# Altium integrated library G-Base-1.IntLib: 32 symbols
Pins are listed as number, name and electrical type; pins without a type are passive.

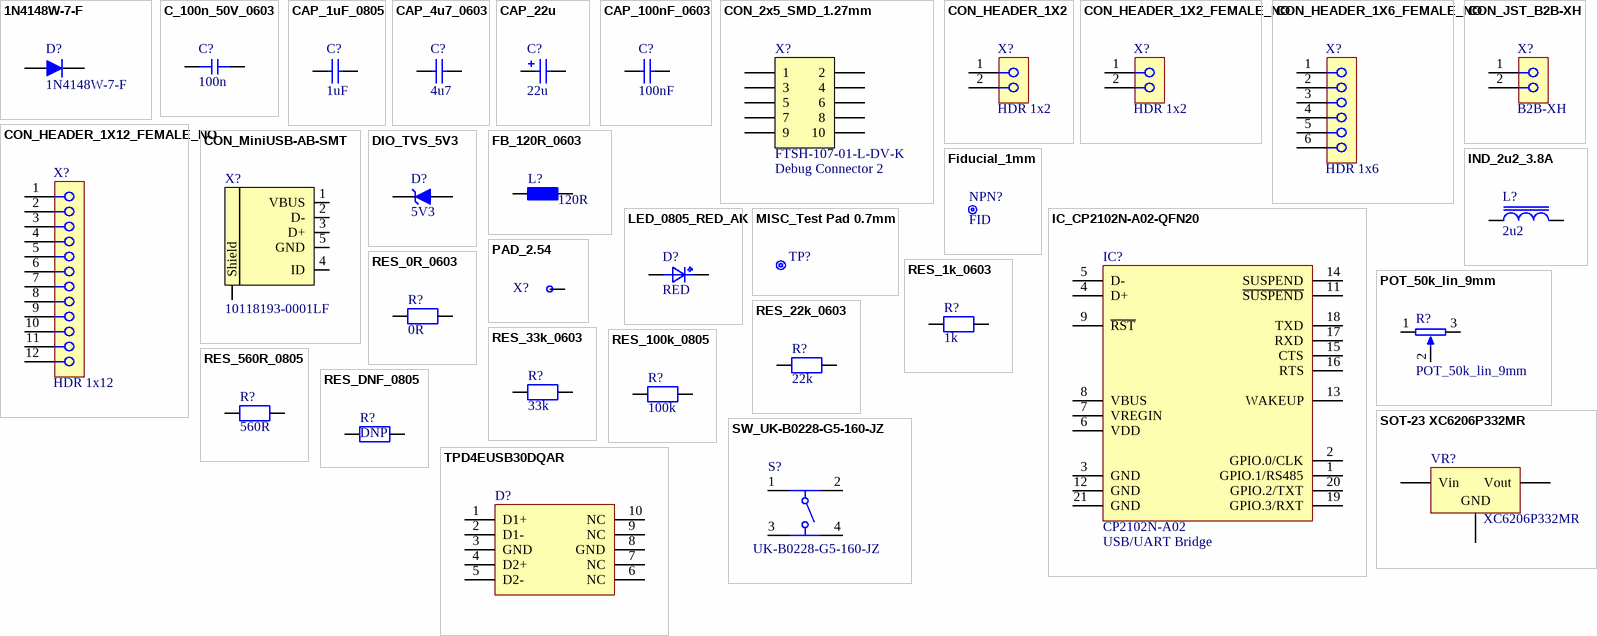
[diagram p0: symbols 1N4148W-7-F to TPD4EUSB30DQAR]

## 1N4148W-7-F
designator D?
Diodes - General Purpose, Power, Switching SURFACE MOUNT FAST SWITCHING DIODE 2A; Manufacturer: Diodes Incorporated; Package: SOD-123; JLC: C81598; Manufacturer Part Number: 1N4148W-7-F
footprint SOD-123
pins: 1 A, 2 K

## C_100n_50V_0603
designator C?, comment 100n
100n_50V; Manufacturer: AVX; Manufacturer Part Number: 06031C104KAT2A; Voltage Rating: 50V; Tolerance: +-10%; Alternatives allowed: YES; Notes: X7R, 0603; Value: 100nF; JLC: C14663
footprint CAPC1608X95N (Chip Capacitor, 2-Leads, Body 1,6x0,8mm, imperial 0603)
pins: 1, 2

## CAP_1uF_0805
designator C?, comment 1uF
Multilayer Ceramic Capacitors MLCC - SMD/SMT, 1uF; Manufacturer: Samsung Electro-Mechanics; Manufacturer Part Number: CL21B105KBFNNNE; Tolerance: 10%; Voltage Rating: 50V; Alternatives allowed: yes; JLC: C28323
footprint CAPC2012X145N (Chip Capacitor, 2-Leads, Body 2,0x1,25mm, imperial 0805)
pins: 1, 2

## CAP_4u7_0603
designator C?, comment 4u7
16V 4.7uF X5R ±10% 0603 Multilayer Ceramic Capacitors MLCC - SMD/SMT ROHS; Manufacturer: Murata Electronics; Manufacturer Part Number: GRM188C81C475KE11D; Voltage Rating: 16VDC; Alternatives allowed: yes; Tolerance: 10%; JLC: C19666
footprint CAPC1608X95N (Chip Capacitor, 2-Leads, Body 1,6x0,8mm, imperial 0603)
pins: 1, 2

## CAP_22u
designator C?, comment 22u
Aluminium Electrolytic Capacitors - SMD 22UF 16V HA SMD; Manufacturer: Panasonic; Manufacturer Part Number: EEE-HAC220WAR; Tolerance: 20%; Alternatives allowed: NO; Voltage Rating: 16V
footprint CAPAE4643X54M (Aluminum Electrolytic Capacitor, Body 4,30x4,30x5,40mm, IPC Low Density)
pins: 1, 2

## CAP_100nF_0603
designator C?, comment 100nF
Multilayer Ceramic Capacitors MLCC - SMD/SMT, 100nF; Manufacturer: YAGEO; Manufacturer Part Number: CC0603KRX7R9BB104; Voltage Rating: 50VDC; Tolerance: 10%; Alternatives allowed: yes; JLC: C14663
footprint CAPC1608X95N (Chip Capacitor, 2-Leads, Body 1,6x0,8mm, imperial 0603)
pins: 1, 2

## CON_2x5_SMD_1.27mm
designator X?, comment FTSH-107-01-L-DV-K  DevNote: Debug Connector 2
Pin Header 2x5, 1.27mm (50mil), SMD, Keying Shroud; Manufacturer: Samtec; Manufacturer Part Number: FTSH-105-01-L-DV-K; Value: Pin Header 2x5, 1.27mm; ComponentLink1URL: *; ComponentLink1Description: Datasheet; ComponentLink2URL: *; ComponentLink2Description: Supplier link
footprint HDR_2x5-SMD-1.27mm-K
pins: 1, 2, 3, 4, 5, 6, 7, 8, 9, 10

## CON_HEADER_1X2
designator X?, comment HDR 1x2
Board-to-Board-Steckverbinder, 2.54 mm, 2 Kontakt(e), Stiftleiste 1-Reihig; Manufacturer: Samtec; Manufacturer Part Number: TSW-102-07-T-S; Lumira Part Number: S-QMS-SPEC-32507; Alternatives allowed: YES
footprint CON_HEADER2.54_1x2W (Footprint not found)
pins: 1, 2

## CON_HEADER_1X2_FEMALE_NO
designator X?, comment HDR 1x2
Board-to-Board-Steckverbinder, 2.54 mm, 2 Kontakt(e), Stiftleiste 1-Reihig; Manufacturer: WE; Manufacturer Part Number: 61300211821; Lumira Part Number: S-QMS-SPEC-32507; Alternatives allowed: YES
footprint 61300211821_NO (Socket Header, Pitch 2.54 mm, THT, Vertical, single row, 2p)
pins: 1, 2

## CON_HEADER_1X6_FEMALE_NO
designator X?, comment HDR 1x6
Board-to-Board-Steckverbinder, 2.54 mm, 6 Kontakt(e), Stiftleiste 1-Reihig; Manufacturer: WE; Manufacturer Part Number: 61300611821; Alternatives allowed: YES
footprint 61300611821_NO (Socket Header, Pitch 2.54 mm, THT, Vertical, single row, 6p)
pins: 1, 2, 3, 4, 5, 6

## CON_HEADER_1X12_FEMALE_NO
designator X?, comment HDR 1x12
Board-to-Board-Steckverbinder, 2.54 mm, 12 Kontakt(e), Stiftleiste 1-Reihig; Manufacturer: WE; Manufacturer Part Number: 61301211821; Alternatives allowed: YES
footprint 61301211821_NO (Socket Header, Pitch 2.54 mm, THT, Vertical, single row, 12p)
pins: 1, 2, 3, 4, 5, 6, 7, 8, 9, 10, 11, 12

## CON_JST_B2B-XH
designator X?, comment B2B-XH
Connector Header Through Hole 2 position 0.098" (2.50mm); Manufacturer: JST; Manufacturer Part Number: B2B-XH-A (LF)(SN); Alternatives allowed: YES; JLC: C158012
footprint JST_B2B-XH-A_(LF)(SN) (Footprint not found)
pins: 1, 2

## CON_MiniUSB-AB-SMT
designator X?, comment 10118193-0001LF
MicroUSB-B-SMT; Manufacturer: Amphenol ICC (FCI); Manufacturer Part Number: 10118193-0001LF; ComponentLink1URL: *; ComponentLink1Description: Datasheet; ComponentLink2URL: *; ComponentLink2Description: Supplier link
footprint USB-Micro-B-RA-SMD-PiP
pins: 1 VBUS (power), 2 D-, 3 D+, 4 ID, 5 GND (power), 6 Shield (power)

## DIO_TVS_5V3
designator D?, comment 5V3
ESD Suppressors / TVS Diodes WE-VE 0603 USB 2.0 5V 10MoHM; Manufacturer: onsemi; Manufacturer Part Number: SZESD7371P2T5G; Alternatives allowed: YES; Voltage Rating: 5V3; JLC: C896553
footprint SODFL100X40-2N (SODFL, 2-Leads, Body 0,60x1,00mm, IPC Medium Density)
pins: A, K

## FB_120R_0603
designator L?, comment 120R
Chip Bead Inductors for Power Lines; Manufacturer: Taiyo Yuden; Manufacturer Part Number: FBMH1608HL121-T; Alternatives allowed: YES; Notes: 0603, 1,2A; Value: 120R
footprint INDC1608X95AN (Chip Inductor, 2-Leads, Body 1,6x0,8mm, imperial 0603)
pins: 1, 2

## Fiducial_1mm
designator NPN?, comment FID
footprint Fiducial_1mm

## IC_CP2102N-A02-QFN20
designator IC?, comment CP2102N-A02  DevNote: USB/UART Bridge
USB Interface IC USBXpress - USB to UART Bridge QFN28; Manufacturer: Silicon Labs; Manufacturer Part Number: CP2102N-A02-GQFN20R; Alternatives allowed: NO; ComponentLink1URL: *; ComponentLink1Description: Datasheet; ComponentLink2URL: *; ComponentLink2Description: Supplier link; Voltage Rating: *; JLC: C969913
footprint SILABS_CP2102N-A02-GQFN20R
pins: 1 GPIO.1/RS485, 2 GPIO.0/CLK, 3 GND, 4 D+, 5 D-, 6 VDD, 7 VREGIN, 8 VBUS, 9 ~{RST}, 11 ~{SUSPEND}, 12 GND, 13 WAKEUP, 14 SUSPEND, 15 CTS, 16 RTS, 17 RXD, 18 TXD, 19 GPIO.3/RXT, 20 GPIO.2/TXT, 21 GND

## IND_2u2_3.8A
designator L?, comment 2u2
Fixed Inductors 2.2uH 3.8A; Manufacturer: Bourns; Manufacturer Part Number: SRN5040TA-2R2M; Voltage Rating: 50V; Tolerance: 10%; Alternatives allowed: yes; JLC: N/A
footprint INDP5050X39N (Precision Wire Wound Inductor, 2-Leads, Body 4,95x4,95mm, IPC Medium Density)
pins: 1, 2

## LED_0805_RED_AK
designator D?, comment RED
Standard LEDs - SMD WL-SMCW SMDMono TpVw Waterclr 0805 Red; Manufacturer: Wurth Elektronik; Manufacturer Part Number: 150080RS75000; Voltage Rating: 2.0; Alternatives allowed: YES; JLC: C84256
footprint WL-SMCW_0805 (Footprint not found)
pins: A, K

## MISC_Test Pad 0.7mm
designator TP?, comment TP 0.7mm  (value not drawn)  (no BOM)
Test Pad surface mount; Notes: Test Pad Only; Alternatives allowed: NO; Manufacturer: N/A; Manufacturer Part Number: N/A
footprint TP_0.7mm
pins: 1
1 alternate drawing of the same symbol

## PAD_2.54
designator X?, comment PAD  (value not drawn)  (net tie, no BOM)
footprint PAD_1.1_1.6
pins: 1

## POT_50k_lin_9mm
designator R?
Potentiometers PANEL CONTROL - 9MM-ST-CA 50 kohms 30 mm; Manufacturer: Bourns; Manufacturer Part Number: PTV09A-4030S-A503; Tolerance: 20%
footprint PTV09
pins: 1, 2, 3

## RES_0R_0603
designator R?, comment 0R
Thick Film Resistors - SMD 1/10watt ZEROohm Jumper; Manufacturer: Vishay; Manufacturer Part Number: CRCW06030000Z0EA; Voltage Rating: 75V; Tolerance: 1%; Alternatives allowed: YES; JLC: C21189
footprint RESC1608X55N (Chip Resistor, 2-Leads, Body 1,6x0,85mm, imperial 0603)
pins: 1, 2

## RES_1k_0603
designator R?, comment 1k
Thick Film Resistors - SMD 1 kOhms 100mW 0603 1%; Manufacturer: Yageo; Manufacturer Part Number: RC0603FR-071KL; Voltage Rating: 75V; Alternatives allowed: YES; Tolerance: 1%; JLC: C21190
footprint RESC1608X55AN (Chip Resistor, 2-Leads, Body 1,6x0,85mm, imperial 0603)
pins: 1, 2

## RES_22k_0603
designator R?, comment 22k
Thick Film Resistors - SMD 22kOhms 1/10W 0603 1%; Manufacturer: YAGEO; Manufacturer Part Number: RC0603FR-7W22KL; Voltage Rating: 75V; Alternatives allowed: YES; Tolerance: 1%; JLC: C31850
footprint RESC1608X55AN (Chip Resistor, 2-Leads, Body 1,6x0,85mm, imperial 0603)
pins: 1, 2

## RES_33k_0603
designator R?, comment 33k
Thick Film Resistors - SMD 33 kOhms 100 mW 0603 5%; Manufacturer: YAGEO; Manufacturer Part Number: RC0603JR-0733KL; Voltage Rating: 50V; Tolerance: 1%; Alternatives allowed: YES; JLC: C4216
footprint RESC1608X55AN (Chip Resistor, 2-Leads, Body 1,6x0,85mm, imperial 0603)
pins: 1, 2

## RES_100k_0805
designator R?, comment 100k
Thick Film Resistors - SMD 1/8watt 100Kohms 1% 100ppm; Manufacturer: Vishay / Dale; Manufacturer Part Number: CRCW0805100KFKEA; Voltage Rating: 150V; Alternatives allowed: YES; Tolerance: 1%; JLC: C17407
footprint RESC2012X70N (Chip Resistor, 2-Leads, Body 2,0x1,25mm, imperial 0805)
pins: 1, 2

## RES_560R_0805
designator R?, comment 560R
Thick Film Resistors - SMD 560 Ohms 125 mW 0805 1%; Manufacturer: YAGEO; Manufacturer Part Number: RC0805FR-10560RL; Voltage Rating: 150V; Alternatives allowed: YES; Tolerance: 1%
footprint RESC2012X70N (Chip Resistor, 2-Leads, Body 2,0x1,25mm, imperial 0805)
pins: 1, 2

## RES_DNF_0805
designator R?, comment DNP  (no BOM)
Resistor SMD 0805 - not populated; Notes: Not populated
footprint RESC2012X70N (Chip Resistor, 2-Leads, Body 2,0x1,25mm, imperial 0805)
pins: 1, 2

## SOT-23 XC6206P332MR
designator VR?, comment XC6206P332MR
低压差线性稳压(LDO); ComponentLink1Description: 供应商链接; ComponentLink1URL: http://www.szlcsc.com/product/details_5896.html; Package: SOT-23; Supplier: LC; SuppliersPartNumber: C5446
footprint SOT-23-3L (http://www.aosmd.com/res/packaging_information/SOT-23-3L.pdf)
pins: 1 GND, 2 Vout, 3 Vin

## SW_UK-B0228-G5-160-JZ
designator S?, comment UK-B0228-G5-160-JZ
No NO Gull Wing 50mA 6mm 100MΩ 100000 12V 160gf@±50gf -20℃~+70℃ 6mm 5mm Black Round Button Brick nogging SPST SMD Tactile Switches ROHS; Manufacturer: USAKRO; Manufacturer Part Number: UK-B0228-G5-160-JZ; JLC: C620316
footprint UK-B0228-G5-160-JZ (SMD Tact Switch, body 6x6mm)
pins: 1, 2, 3, 4

## TPD4EUSB30DQAR
designator D?
2-, 4-Channel ESD Protection for Super-Speed USB 3.0 Interface; Manufacturer: Texas Instruments; Manufacturer Part Number: TPD4EUSB30DQAR; Alternatives allowed: NO
footprint DQA R-PUSON-N10
pins: 1 D1+, 2 D1-, 3 GND (power), 4 D2+, 5 D2-, 6 NC, 7 NC, 8 GND (power), 9 NC, 10 NC